# EAGLE library part DS90UB940TNKDTQ1 (library DS90UH949ATRGCRQ1_Library)
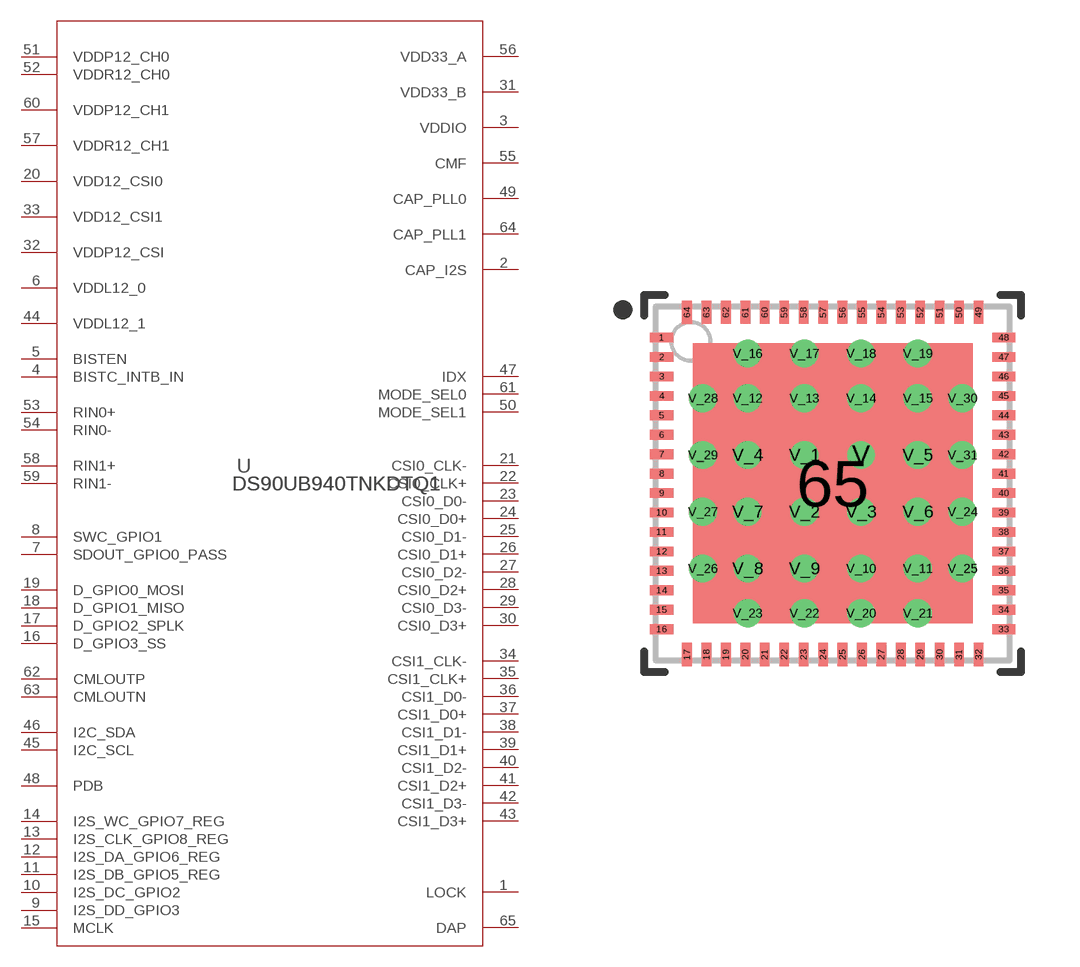
[diagram p0: symbol with the pads of NKD0064A; footprint NKD0064A]

Designator prefix U

## DS90UB940TNKDTQ1NKD0064A (Copyright: Copyright (C) 2025 Ultra Librarian. All rights reserved.; Manufacturer_Part_Number: DS90UB940TNKDTQ1; Mfr_Name: Texas Instruments; RefDes: RefDes; TYPE: TYPE)  [NKD0064A]
1  LOCK  out
2  CAP_I2S  pas
3  VDDIO  pwr
4  BISTC_INTB_IN  in
5  BISTEN  in
6  VDDL12_0  pwr
7  SDOUT_GPIO0_PASS
8  SWC_GPIO1
9  I2S_DD_GPIO3
10  I2S_DC_GPIO2
11  I2S_DB_GPIO5_REG
12  I2S_DA_GPIO6_REG
13  I2S_CLK_GPIO8_REG
14  I2S_WC_GPIO7_REG
15  MCLK  out
16  D_GPIO3_SS
17  D_GPIO2_SPLK
18  D_GPIO1_MISO
19  D_GPIO0_MOSI
20  VDD12_CSI0  pwr
21  CSI0_CLK-  out
22  CSI0_CLK+  out
23  CSI0_D0-  out
24  CSI0_D0+  out
25  CSI0_D1-  out
26  CSI0_D1+  out
27  CSI0_D2-  out
28  CSI0_D2+  out
29  CSI0_D3-  out
30  CSI0_D3+  out
31  VDD33_B  pwr
32  VDDP12_CSI  pwr
33  VDD12_CSI1  pwr
34  CSI1_CLK-  out
35  CSI1_CLK+  out
36  CSI1_D0-  out
37  CSI1_D0+  out
38  CSI1_D1-  out
39  CSI1_D1+  out
40  CSI1_D2-  out
41  CSI1_D2+  out
42  CSI1_D3-  out
43  CSI1_D3+  out
44  VDDL12_1  pwr
45  I2C_SCL
46  I2C_SDA
47  IDX  in
48  PDB  in
49  CAP_PLL0  pas
50  MODE_SEL1  in
51  VDDP12_CH0  pwr
52  VDDR12_CH0  pwr
53  RIN0+
54  RIN0-
55  CMF  pas
56  VDD33_A  pwr
57  VDDR12_CH1  pwr
58  RIN1+
59  RIN1-
60  VDDP12_CH1  pwr
61  MODE_SEL0  in
62  CMLOUTP  out
63  CMLOUTN  out
64  CAP_PLL1  pas
65  DAP  pwr

## Footprint NKD0064A (pad centres in mm)
smd 0.6 x 0.25: 1 -4.4,3.75; 2 -4.4,3.25; 3 -4.4,2.75; 4 -4.4,2.25; 5 -4.4,1.75; 6 -4.4,1.25; 7 -4.4,0.75; 8 -4.4,0.25; 9 -4.4,-0.25; 10 -4.4,-0.75; 11 -4.4,-1.25; 12 -4.4,-1.75; 13 -4.4,-2.25; 14 -4.4,-2.75; 15 -4.4,-3.25; 16 -4.4,-3.75; 33 4.4,-3.75; 34 4.4,-3.25; 35 4.4,-2.75; 36 4.4,-2.25; 37 4.4,-1.75; 38 4.4,-1.25; 39 4.4,-0.75; 40 4.4,-0.25; 41 4.4,0.25; 42 4.4,0.75; 43 4.4,1.25; 44 4.4,1.75; 45 4.4,2.25; 46 4.4,2.75; 47 4.4,3.25; 48 4.4,3.75
smd 0.25 x 0.6: 17 -3.75,-4.4; 18 -3.25,-4.4; 19 -2.75,-4.4; 20 -2.25,-4.4; 21 -1.75,-4.4; 22 -1.25,-4.4; 23 -0.75,-4.4; 24 -0.25,-4.4; 25 0.25,-4.4; 26 0.75,-4.4; 27 1.25,-4.4; 28 1.75,-4.4; 29 2.25,-4.4; 30 2.75,-4.4; 31 3.25,-4.4; 32 3.75,-4.4; 49 3.75,4.4; 50 3.25,4.4; 51 2.75,4.4; 52 2.25,4.4; 53 1.75,4.4; 54 1.25,4.4; 55 0.75,4.4; 56 0.25,4.4; 57 -0.25,4.4; 58 -0.75,4.4; 59 -1.25,4.4; 60 -1.75,4.4; 61 -2.25,4.4; 62 -2.75,4.4; 63 -3.25,4.4; 64 -3.75,4.4
smd 7.2 x 7.2: 65 0,0
drill 0.203 pad 0.5 round: V 0.73,0.73; V_1 -0.73,0.73; V_2 -0.73,-0.73; V_3 0.73,-0.73; V_4 -2.19,0.73; V_5 2.19,0.73; V_6 2.19,-0.73; V_7 -2.19,-0.73; V_8 -2.19,-2.19; V_9 -0.73,-2.19; V_10 0.73,-2.19; V_11 2.19,-2.19; V_12 -2.19,2.19; V_13 -0.73,2.19; V_14 0.73,2.19; V_15 2.19,2.19; V_16 -2.19,3.34; V_17 -0.73,3.34; V_18 0.73,3.34; V_19 2.19,3.34; V_20 0.73,-3.34; V_21 2.19,-3.34; V_22 -0.73,-3.34; V_23 -2.19,-3.34; V_24 3.34,-0.73; V_25 3.34,-2.19; V_26 -3.34,-2.19; V_27 -3.34,-0.73; V_28 -3.34,2.19; V_29 -3.34,0.73; V_30 3.34,2.19; V_31 3.34,0.73